# EAGLE library part 750313753 (library Midcom Inc - EAGLE Lib V2-0)
Package Style: EE25/13/11 Mounting: THT Pins: 8 pins Bobbin: 070-5659 Best pinouts for production vary per application. Please contact Wurth Electronics Midcom, Inc. for assistance with your custom design. Website: Wurth Electronics Midcom <http://www.we-online.com/midcom> Contact us Wurth Electronics Midcom, Inc. 121 Airport Dr. Watertown, SD 57201 Phone: (605) 886-4385 Fax: (605) 886-4486 E-Mail: midcom@we-online.com
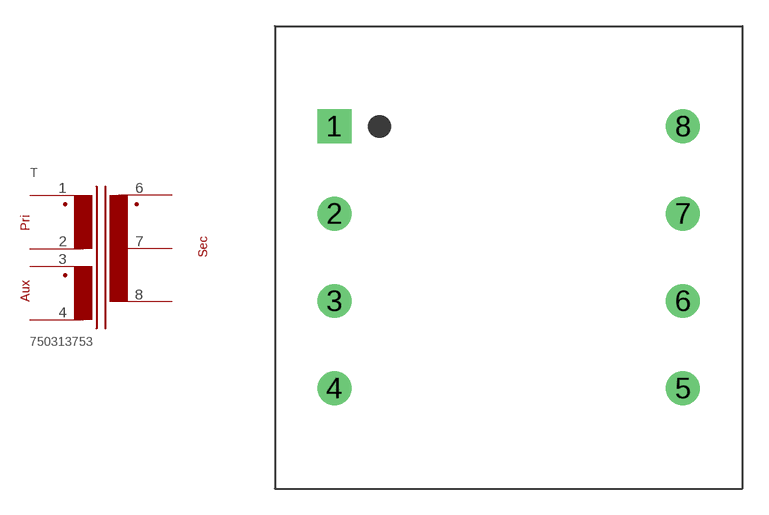
[diagram p129: symbol with the pads of EE25/13/11_THT_H_8PIN_(5659); footprint EE25/13/11_THT_H_8PIN_(5659)]

Designator prefix T

## 750313753  [EE25/13/11_THT_H_8PIN_(5659)]
1  1  pas
2  2  pas
3  3  pas
4  4  pas
6  6  pas
7  7  pas
8  8  pas

## Footprint EE25/13/11_THT_H_8PIN_(5659) (pad centres in mm)
Package Style: EE25/13/11 Mounting: THT Pins: 8 Bobbin: 070-5659
drill 1.295 square: 1 -9.995,7.506
drill 1.295: 2 -9.995,2.502; 3 -9.995,-2.502; 4 -9.995,-7.506; 5 9.995,-7.506; 6 9.995,-2.502; 7 9.995,2.502; 8 9.995,7.506